# EAGLE library part BC-PROG (library hardwario)
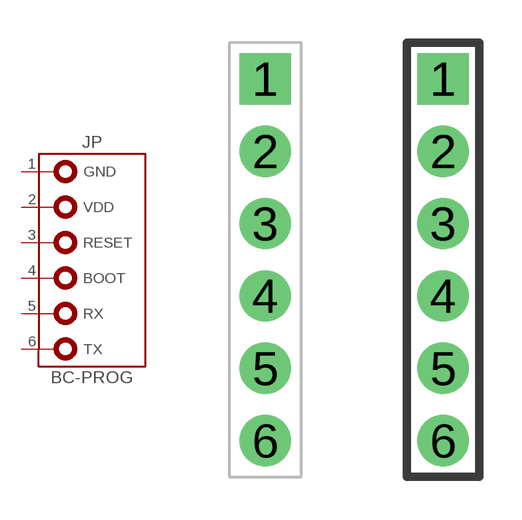
[diagram p2: symbol with the pads of BC-PROG; footprints BC-PROG, BC-PROG-DESCR-BOT]

Designator prefix JP

## BC-PROG (BCPN: -; VALUE: DNP)  [BC-PROG]
1  GND  pas
2  VDD  pas
3  RESET  pas
4  BOOT  pas
5  RX  pas
6  TX  pas

## BC-PROG-DESCRIPTION-BOT (BCPN: -; VALUE: DNP)  [BC-PROG-DESCR-BOT]
Pads as for BC-PROG

## Footprint BC-PROG (pad centres in mm)
drill 1 pad 1.8 square: 1 0,6.35
drill 1 pad 1.8: 2 0,3.81; 3 0,1.27; 4 0,-1.27; 5 0,-3.81; 6 0,-6.35

## Footprint BC-PROG-DESCR-BOT (pad centres in mm)
drill 1 pad 1.8 square: 1 0,6.35
drill 1 pad 1.8: 2 0,3.81; 3 0,1.27; 4 0,-1.27; 5 0,-3.81; 6 0,-6.35